# Altium schematic symbol library HARSH_Payload_SchLib.SchLib: 93 symbols (part 2 of 4)
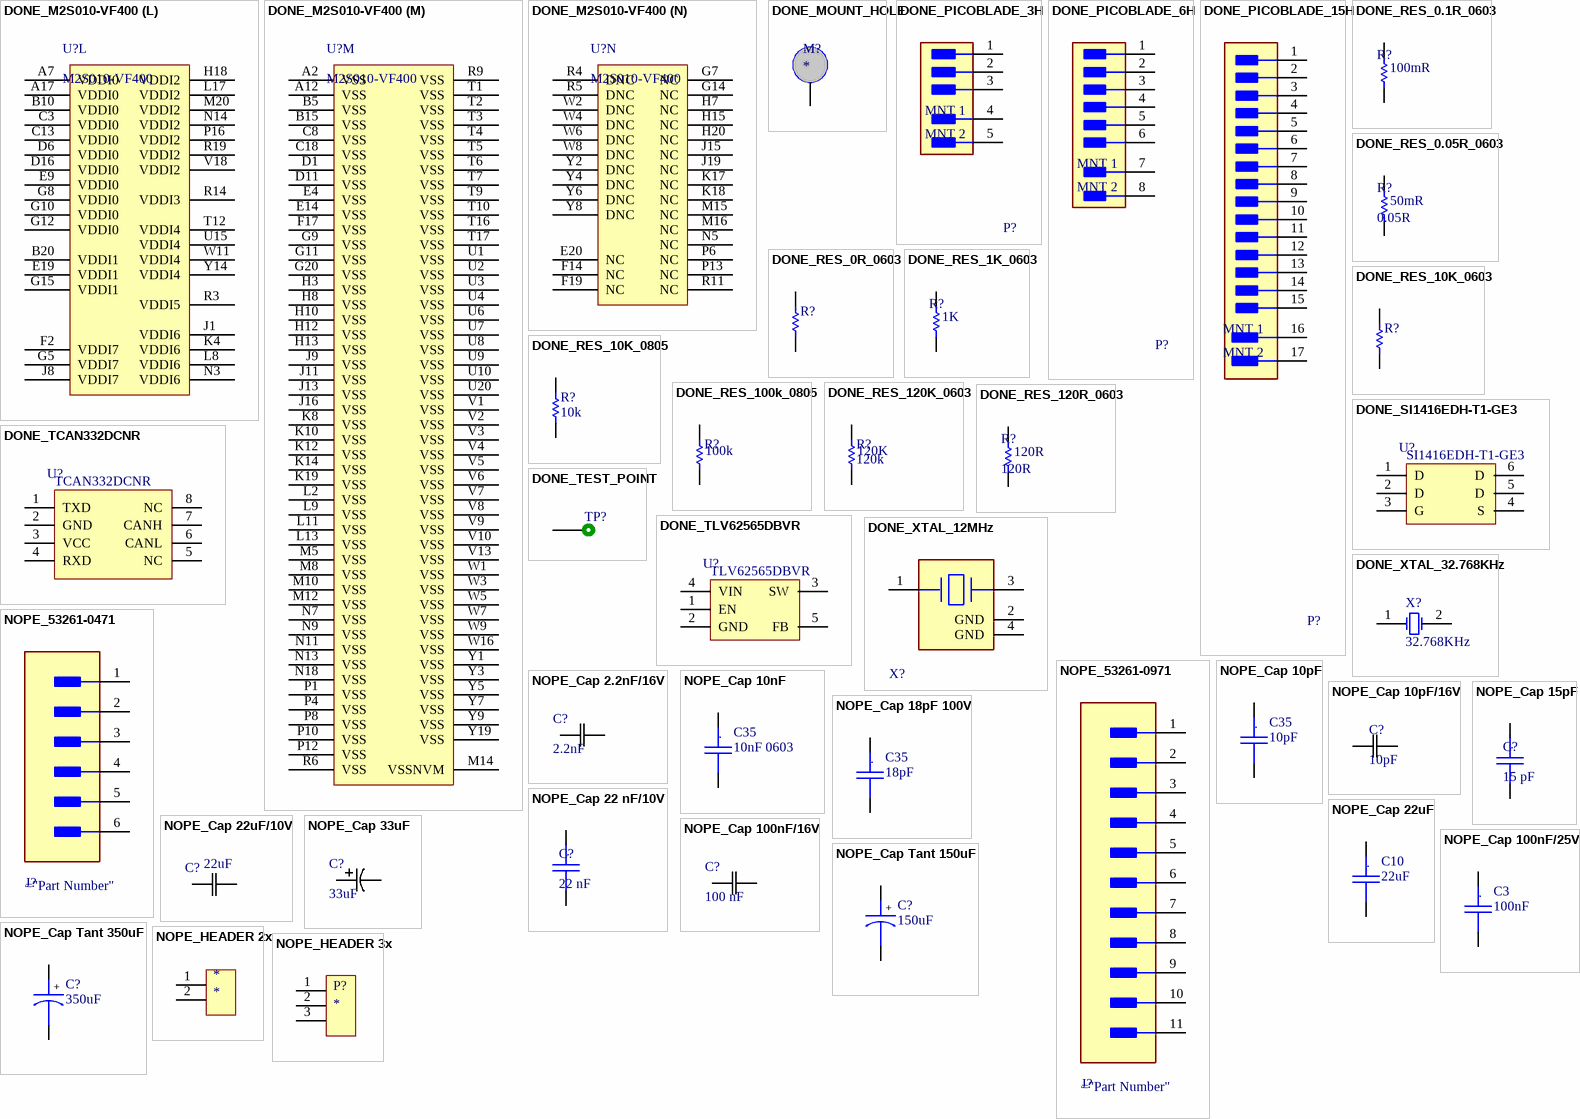
[diagram p4: symbols DONE_M2S010-VF400 to NOPE_HEADER 3x]

## DONE_M2S010-VF400
designator U?, comment M2S010-VF400
SmartFusion2 SoC FPGA, ARM Cortex-M3, 10 K LUTs, 195 User I/O, Design Security, 0 to 85 degC, 400-Ball BGA; Manufacturer: Microsemi; DDR Controllers (Count x Width): 1x18; MSIO (3.3V): 99; PLLs and CCCs: 2; eSRAM (K Bytes) Non SECDED: 80; SERDES Lanes: 4; Total User I/O: 195; eSRAM (K Bytes): 64; uSRAM1K Blocks: 22; Maximum Logic Elements: 12,084; MSIOD (2.5V): 32; eNVM (K Bytes): 256; Total RAM (K bits): 400; LSRAM 18K Blocks: 21; Partnumber: M2S010-VF400; PackageVersion: Rev. 48, 11/2013; ComponentLink1Description: Manufacturer URL; ComponentLink2Description: Datasheet; DatasheetVersion: Rev. 5; ComponentLink3URL: http://www.microsemi.com/document-portal/doc_download/131095-package-mechanical-drawings; ComponentLink1URL: http://www.microsemi.com/; ComponentLink2URL: http://www.microsemi.com/document-portal/doc_download/130717-smartfusion2-datasheet; PackageReference: VF-400; ComponentLink3Description: Package Specification; Math Blocks (18x18): 22; RoHS: FALSE; DDRIO (2.5V): 64; Mounting Technology: Surface Mount; PackageDescription: 400-Ball Very Fine Pitch Ball Grid Array, Body 17 x 17 mm, Pitch 0.8 mm
footprint DONE_MCSM_VF_400 (BGA, 400-Balls, Body 17x17mm, Pitch 0.8mm)
part A pins: A1 DDRIO59PB0/GB0 (io), A3 DDRIO56PB0/MDDR_DQ_ECC1 (io), A4 DDRIO56NB0/MDDR_DQ_ECC0 (io), A5 DDRIO53PB0/MDDR_DQ2 (io), A6 DDRIO53NB0/MDDR_DQ3 (io), A8 DDRIO50PB0/MDDR_DQ5 (io), A9 DDRIO48PB0/MDDR_DQ8 (io), A10 DDRIO48NB0/MDDR_DQ9 (io), A11 DDRIO43PB0/MDDR_DQ14 (io), A13 DDRIO36PB0/MDDR_ADDR1 (io), A14 DDRIO36NB0/MDDR_ADDR2 (io), A15 DDRIO34NB0/MDDR_ADDR6 (io), A16 DDRIO32PB0/MDDR_ADDR8 (io), A18 DDRIO29PB0/MDDR_ADDR14 (io), B1 DDRIO59NB0/GB4 (io), B3 DDRIO58PB0/MDDR_DQS_ECC (io), B4 DDRIO58NB0/MDDR_DQS_ECC_N (io), B6 DDRIO51PB0/MDDR_DM_RDQS0 (io), B7 DDRIO51NB0/MDDR_DQ4 (io), B8 DDRIO50NB0/MDDR_DQ6 (io), B9 DDRIO46NB0/MDDR_DQS1_N (io), B11 DDRIO43NB0/MDDR_DQ15 (io), B12 DDRIO39NB0/MDDR_CLK_N (io), B13 DDRIO39PB0/MDDR_CLK (io), B14 DDRIO34PB0/MDDR_ADDR5 (io), B16 DDRIO33PB0/MDDR_ODT (io), B17 DDRIO32NB0/MDDR_ADDR9 (io), B18 DDRIO29NB0/MDDR_ADDR15 (io), C4 DDRIO60PB0/MDDR_TMATCH_ECC_OUT (io), C5 DDRIO57NB0/MDDR_DM_RDQS_ECC (io), C6 DDRIO52PB0/MDDR_DQS0 (io), C7 DDRIO52NB0/MDDR_DQS0_N (io), C9 DDRIO46PB0/MDDR_DQS1 (io), C10 DDRIO47NB0/MDDR_DQ11 (io), C11 DDRIO41NB0/MDDR_CS_N (io), C12 DDRIO41PB0/MDDR_CKE (io), C14 DDRIO35PB0/MDDR_ADDR3 (io), C15 DDRIO35NB0/MDDR_ADDR4 (io), C16 DDRIO33NB0/MDDR_ADDR7 (io), C17 DDRIO30NB0/MDDR_ADDR13 (io), D3 DDRIO60NB0/CCC_NE1_CLKI3 (io), D4 DDRIO57PB0/MDDR_TMATCH_ECC_IN (io), D5 DDRIO55NB0 (io) "The double data input output (DDRIO) is a multi-standard I/O optimized for LPDDR/DDR2/DDR3 performance. In SmartFusion2 devices there are two DDR subsystems: the fabric DDR and MSS DDR controllers. All DDRIOs can be (See Datasheet)", D7 DDRIO49PB0/MDDR_DQ7 (io), D8 DDRIO49NB0/MDDR_TMATCH_0_OUT (io), D9 DDRIO47PB0/MDDR_DQ10 (io), D10 DDRIO44PB0/MDDR_DQ12 (io), D12 DDRIO42PB0/MDDR_RAS_N (io), D13 DDRIO37PB0/MDDR_BA2 (io), D14 DDRIO37NB0/MDDR_ADDR0 (io), D15 DDRIO31PB0/MDDR_ADDR10 (io), D17 DDRIO30PB0/MDDR_ADDR12 (io), E6 DDRIO55PB0/CCC_NE0_CLKI3 (io), E7 DDRIO54PB0/MDDR_DQ0 (io), E8 DDRIO45PB0/MDDR_TMATCH_0_IN (io), E10 DDRIO44NB0/MDDR_DQ13 (io), E11 DDRIO42NB0/MDDR_WE_N (io), E12 DDRIO40NB0/MDDR_CAS_N (io), E13 DDRIO38PB0/MDDR_BA0 (io), E15 DDRIO31NB0/MDDR_ADDR11 (io), F8 DDRIO54NB0/MDDR_DQ1 (io), F9 DDRIO45NB0/MDDR_DM_RDQS1 (io), F11 DDRIO40PB0/MDDR_RESET_N (io), F13 DDRIO38NB0/MDDR_BA1 (io)
part B pins: A19 MSIO28NB1/I2C_0_SCL/GPIO_31_B/USB_DATA1_C (io), A20 MSIO28PB1/I2C_0_SDA/GPIO_30_B/USB_DATA0_C (io), B19 MSIO27NB1/MMUART_0_CLK/GPIO_29_B/USB_NXT_C (io), C19 MSIO27PB1/MMUART_0_RXD/GPIO_28_B/USB_STP_C (io), C20 MSIO25NB1/MMUART_0_DCD/GPIO_22_B (io), D18 MSI26NB1/MMUART_0_TXD/GPIO_27_B/USB_DIR_C (io), D20 MSIO25PB1/MMUART_0_RI/GPIO_21_B (io), E16 MSIO24NB1/MMUART_0_DSR/GPIO_20_B (io), E17 MSIO24PB1/MMUART_0_CTS/GPIO_19_B/USB_DATA7_C (io), E18 MSIO22PB1/GB6/MMUART_1_CLK/GPIO_25_B/USB_DATA4_C (io), F15 MSIO23PB1/MMUART_0_RTS/GPIO_17_B/USB_DATA5_C (io), F16 MSIO23NB1/MMUART_0_DTR/GPIO_18_B/USB_DATA6_C (io), F18 MSIO22NB1/MMUART_1_RXD/GPIO_26_B/USB_DATA3_C (io), G16 MSIO21NB1/MMUART_1_TXD/GPIO_24_B/USB_DATA2_C (io), G17 MSIO21PB1/GB5/USB_XCLK_C (io)
part C pins: F20 MSIO20NB2/SPI_1_SS3/GPIO_16_A (io), G18 MSIO18NB2/SPI_0_SS2/GPIO_9_A/USB_DATA6_A (io), G19 MSIO20PB2/SPI_1_SS2/GPIO_15_A (io), H16 MSIO19NB2/SPI_1_SS1/GPIO_14_A (io), H17 MSIO19PB2/SPI_0_SS3/GPIO_10_A/USB_DATA7_A (io), H19 MSIO18PB2/SPI_0_SS1/GPIO_8_A/USB_DATA5_A (io), J17 MSIO16PB2/SPI_1_SS4/GPIO_17_A (io), J18 MSIO16NB2/SPI_1_SS5/GPIO_18_A (io), J20 MSIO15NB2/SPI_1_SS0/GPIO_13_A (io), K15 MSIO17NB2/SPI_1_SS7/GPIO_24_A (io), K16 MSIO17PB2/SPI_1_SS6/GPIO_23_A (io), K20 MSIO15PB2/SPI_1_SDO/GPIO_12_A (io), L15 MSIO14PB2/SPI_1_CLK (io), L16 MSIO14NB2/SPI_1_SDI/GPIO_11_A (io), L19 MSIO13NB2/SPI_0_SS0/GPIO_7_A/USB_NXT_A (io), L20 MSIO13PB2/SPI_0_SDO/GPIO_6_A/USB_STP_A (io), M17 MSIO11NB2/CCC_NE0_CLKI2/I2C_1_SCL/GPIO_1_A/USB_DATA4_A (io), M19 MSIO8NB2/CAN_TX_EN_N/GPIO_4_A/USB_DATA2_A (io), N15 MSIO12NB2/SPI_0_SDI/GPIO_5_A/USB_DIR_A (io), N16 MSIO11PB2/CCC_NE0_CLKI1/I2C_1_SDA/GPIO_0_A/USB_DATA3_A (io), N19 MSIO4NB2/USB_DATA3_B (io), N20 MSIO8PB2/CAN_RX/GPIO_3_A/USB_DATA1_A (io), P15 MSIO12PB2/SPI_0_CLK/USB_XCLK_A (io), P18 MSIO6PB2/USB_DATA6_B (io), P19 MSIO6NB2 (io) "MSIOs provide programmable drive strength, weak pull-up, and weak-pulldown.In single ended mode, the I/O pair operates as two separate I/Os named P and N. Some of these pins are also multiplexed with integrated peripherals (See Datasheet)", P20 MSIO4PB2/USB_DATA2_B (io), R15 MSIO7NB2/CAN_TX/GPIO_2_A/USB_DATA0_A (io), R16 MSIO7PB2 (io) "MSIOs provide programmable drive strength, weak pull-up, and weak-pulldown.In single ended mode, the I/O pair operates as two separate I/Os named P and N. Some of these pins are also multiplexed with integrated peripherals (See Datasheet)", R17 MSIO5PB2/USB_DATA4_B (io), R18 MSIO5NB2/USB_DATA5_B (io), R20 MSIO3NB2/USB_DATA1_B (io), T18 MSIO2PB2/USB_STP_B (io), T19 MSIO2NB2/USB_NXT_B (io), T20 MSIO3PB2/USB_DATA0_B (io), U18 MSIO1PB2/USB_XCLK_B (io), U19 MSIO1NB2/USB_DIR_B (io), V19 MSIO0NB2/USB_DATA7_B (io), V20 MSIO0PB2 (io) "MSIOs provide programmable drive strength, weak pull-up, and weak-pulldown.In single ended mode, the I/O pair operates as two separate I/Os named P and N. Some of these pins are also multiplexed with integrated peripherals (See Datasheet)"
part D pins: R12 MSIO114NB4 (io) "MSIOs provide programmable drive strength, weak pull-up, and weak-pulldown.In single ended mode, the I/O pair operates as two separate I/Os named P and N. Some of these pins are also multiplexed with integrated peripherals (See Datasheet)", R13 MSIO114PB4 (io) "MSIOs provide programmable drive strength, weak pull-up, and weak-pulldown.In single ended mode, the I/O pair operates as two separate I/Os named P and N. Some of these pins are also multiplexed with integrated peripherals (See Datasheet)", T13 MSIO113NB4 (io) "MSIOs provide programmable drive strength, weak pull-up, and weak-pulldown.In single ended mode, the I/O pair operates as two separate I/Os named P and N. Some of these pins are also multiplexed with integrated peripherals (See Datasheet)", T14 MSIO116PB4 (io) "MSIOs provide programmable drive strength, weak pull-up, and weak-pulldown.In single ended mode, the I/O pair operates as two separate I/Os named P and N. Some of these pins are also multiplexed with integrated peripherals (See Datasheet)", T15 MSIO116NB4 (io) "MSIOs provide programmable drive strength, weak pull-up, and weak-pulldown.In single ended mode, the I/O pair operates as two separate I/Os named P and N. Some of these pins are also multiplexed with integrated peripherals (See Datasheet)", U11 MSIO104NB4/GB7 (io), U12 MSIO110NB4 (io) "MSIOs provide programmable drive strength, weak pull-up, and weak-pulldown.In single ended mode, the I/O pair operates as two separate I/Os named P and N. Some of these pins are also multiplexed with integrated peripherals (See Datasheet)", U13 MSIO113PB4 (io) "MSIOs provide programmable drive strength, weak pull-up, and weak-pulldown.In single ended mode, the I/O pair operates as two separate I/Os named P and N. Some of these pins are also multiplexed with integrated peripherals (See Datasheet)", U14 MSIO115NB4 (io) "MSIOs provide programmable drive strength, weak pull-up, and weak-pulldown.In single ended mode, the I/O pair operates as two separate I/Os named P and N. Some of these pins are also multiplexed with integrated peripherals (See Datasheet)", V11 MSIO104PB4/GB3 (io), V12 MSIO110PB4 (io) "MSIOs provide programmable drive strength, weak pull-up, and weak-pulldown.In single ended mode, the I/O pair operates as two separate I/Os named P and N. Some of these pins are also multiplexed with integrated peripherals (See Datasheet)", V14 MSIO115PB4 (io) "MSIOs provide programmable drive strength, weak pull-up, and weak-pulldown.In single ended mode, the I/O pair operates as two separate I/Os named P and N. Some of these pins are also multiplexed with integrated peripherals (See Datasheet)", V15 MSIO118NB4 (io) "MSIOs provide programmable drive strength, weak pull-up, and weak-pulldown.In single ended mode, the I/O pair operates as two separate I/Os named P and N. Some of these pins are also multiplexed with integrated peripherals (See Datasheet)", W10 MSIO102NB4/CCC_NE1_CLKI0 (io), W12 MSIO103NB4/PROBE_B (io), W13 MSIO112PB4 (io) "MSIOs provide programmable drive strength, weak pull-up, and weak-pulldown.In single ended mode, the I/O pair operates as two separate I/Os named P and N. Some of these pins are also multiplexed with integrated peripherals (See Datasheet)", W14 MSIO112NB4 (io) "MSIOs provide programmable drive strength, weak pull-up, and weak-pulldown.In single ended mode, the I/O pair operates as two separate I/Os named P and N. Some of these pins are also multiplexed with integrated peripherals (See Datasheet)", W15 MSIO118PB4 (io) "MSIOs provide programmable drive strength, weak pull-up, and weak-pulldown.In single ended mode, the I/O pair operates as two separate I/Os named P and N. Some of these pins are also multiplexed with integrated peripherals (See Datasheet)", Y10 MSIO102PB4 (io) "MSIOs provide programmable drive strength, weak pull-up, and weak-pulldown.In single ended mode, the I/O pair operates as two separate I/Os named P and N. Some of these pins are also multiplexed with integrated peripherals (See Datasheet)", Y11 MSIO103PB4/PROBE_A (io), Y12 MSIO105PB4/CCC_NE0_CLKI0 (io), Y13 MSIO105NB4 (io) "MSIOs provide programmable drive strength, weak pull-up, and weak-pulldown.In single ended mode, the I/O pair operates as two separate I/Os named P and N. Some of these pins are also multiplexed with integrated peripherals (See Datasheet)", Y15 MSIO117PB4 (io) "MSIOs provide programmable drive strength, weak pull-up, and weak-pulldown.In single ended mode, the I/O pair operates as two separate I/Os named P and N. Some of these pins are also multiplexed with integrated peripherals (See Datasheet)", Y16 MSIO117NB4 (io) "MSIOs provide programmable drive strength, weak pull-up, and weak-pulldown.In single ended mode, the I/O pair operates as two separate I/Os named P and N. Some of these pins are also multiplexed with integrated peripherals (See Datasheet)"
part E pins: P2 MSIOD101PB5 (io) "MSIOD is very similar to MSIO, but drops 3.3 V and hot-plug support and adds pre-emphasis, in order to achieve higher speeds. MSIODs provide programmable drive strength, weak pull-up, and weak pull-down. MSIOD I/O cells (See Datasheet)", P3 MSIOD101NB5 (io) "MSIOD is very similar to MSIO, but drops 3.3 V and hot-plug support and adds pre-emphasis, in order to achieve higher speeds. MSIODs provide programmable drive strength, weak pull-up, and weak pull-down. MSIOD I/O cells (See Datasheet)", R1 MSIOD100PB5 (io) "MSIOD is very similar to MSIO, but drops 3.3 V and hot-plug support and adds pre-emphasis, in order to achieve higher speeds. MSIODs provide programmable drive strength, weak pull-up, and weak pull-down. MSIOD I/O cells (See Datasheet)", R2 MSIOD100NB5 (io) "MSIOD is very similar to MSIO, but drops 3.3 V and hot-plug support and adds pre-emphasis, in order to achieve higher speeds. MSIODs provide programmable drive strength, weak pull-up, and weak pull-down. MSIOD I/O cells (See Datasheet)"
part F pins: H1 MSIOD82PB6 (io) "MSIOD is very similar to MSIO, but drops 3.3 V and hot-plug support and adds pre-emphasis, in order to achieve higher speeds. MSIODs provide programmable drive strength, weak pull-up, and weak pull-down. MSIOD I/O cells (See Datasheet)", H2 MSIOD82NB6 (io) "MSIOD is very similar to MSIO, but drops 3.3 V and hot-plug support and adds pre-emphasis, in order to achieve higher speeds. MSIODs provide programmable drive strength, weak pull-up, and weak pull-down. MSIOD I/O cells (See Datasheet)", J2 MSIOD84PB6/CCC_NE1_CLKI2 (io), J3 MSIOD84NB6 (io) "MSIOD is very similar to MSIO, but drops 3.3 V and hot-plug support and adds pre-emphasis, in order to achieve higher speeds. MSIODs provide programmable drive strength, weak pull-up, and weak pull-down. MSIOD I/O cells (See Datasheet)", J4 MSIOD83PB6 (io) "MSIOD is very similar to MSIO, but drops 3.3 V and hot-plug support and adds pre-emphasis, in order to achieve higher speeds. MSIODs provide programmable drive strength, weak pull-up, and weak pull-down. MSIOD I/O cells (See Datasheet)", J5 MSIOD83NB6 (io) "MSIOD is very similar to MSIO, but drops 3.3 V and hot-plug support and adds pre-emphasis, in order to achieve higher speeds. MSIODs provide programmable drive strength, weak pull-up, and weak pull-down. MSIOD I/O cells (See Datasheet)", J6 MSIOD85NB6 (io) "MSIOD is very similar to MSIO, but drops 3.3 V and hot-plug support and adds pre-emphasis, in order to achieve higher speeds. MSIODs provide programmable drive strength, weak pull-up, and weak pull-down. MSIOD I/O cells (See Datasheet)", K1 MSIOD93NB6 (io) "MSIOD is very similar to MSIO, but drops 3.3 V and hot-plug support and adds pre-emphasis, in order to achieve higher speeds. MSIODs provide programmable drive strength, weak pull-up, and weak pull-down. MSIOD I/O cells (See Datasheet)", K2 MSIOD87PB6 (io) "MSIOD is very similar to MSIO, but drops 3.3 V and hot-plug support and adds pre-emphasis, in order to achieve higher speeds. MSIODs provide programmable drive strength, weak pull-up, and weak pull-down. MSIOD I/O cells (See Datasheet)", K3 MSIOD87NB6 (io) "MSIOD is very similar to MSIO, but drops 3.3 V and hot-plug support and adds pre-emphasis, in order to achieve higher speeds. MSIODs provide programmable drive strength, weak pull-up, and weak pull-down. MSIOD I/O cells (See Datasheet)", K5 MSIOD86PB6 (io) "MSIOD is very similar to MSIO, but drops 3.3 V and hot-plug support and adds pre-emphasis, in order to achieve higher speeds. MSIODs provide programmable drive strength, weak pull-up, and weak pull-down. MSIOD I/O cells (See Datasheet)", K6 MSIOD86NB6 (io) "MSIOD is very similar to MSIO, but drops 3.3 V and hot-plug support and adds pre-emphasis, in order to achieve higher speeds. MSIODs provide programmable drive strength, weak pull-up, and weak pull-down. MSIOD I/O cells (See Datasheet)", K7 MSIOD85PB6/CCC_NE1_CLKI1 (io), L1 MSIOD93PB6 (io) "MSIOD is very similar to MSIO, but drops 3.3 V and hot-plug support and adds pre-emphasis, in order to achieve higher speeds. MSIODs provide programmable drive strength, weak pull-up, and weak pull-down. MSIOD I/O cells (See Datasheet)", L3 MSIOD95NB6 (io) "MSIOD is very similar to MSIO, but drops 3.3 V and hot-plug support and adds pre-emphasis, in order to achieve higher speeds. MSIODs provide programmable drive strength, weak pull-up, and weak pull-down. MSIOD I/O cells (See Datasheet)", L4 MSIOD90PB6 (io) "MSIOD is very similar to MSIO, but drops 3.3 V and hot-plug support and adds pre-emphasis, in order to achieve higher speeds. MSIODs provide programmable drive strength, weak pull-up, and weak pull-down. MSIOD I/O cells (See Datasheet)", L5 MSIOD90NB6 (io) "MSIOD is very similar to MSIO, but drops 3.3 V and hot-plug support and adds pre-emphasis, in order to achieve higher speeds. MSIODs provide programmable drive strength, weak pull-up, and weak pull-down. MSIOD I/O cells (See Datasheet)", L6 MSIOD89PB6 (io) "MSIOD is very similar to MSIO, but drops 3.3 V and hot-plug support and adds pre-emphasis, in order to achieve higher speeds. MSIODs provide programmable drive strength, weak pull-up, and weak pull-down. MSIOD I/O cells (See Datasheet)", L7 MSIOD89NB6 (io) "MSIOD is very similar to MSIO, but drops 3.3 V and hot-plug support and adds pre-emphasis, in order to achieve higher speeds. MSIODs provide programmable drive strength, weak pull-up, and weak pull-down. MSIOD I/O cells (See Datasheet)", M1 MSIOD97PB6 (io) "MSIOD is very similar to MSIO, but drops 3.3 V and hot-plug support and adds pre-emphasis, in order to achieve higher speeds. MSIODs provide programmable drive strength, weak pull-up, and weak pull-down. MSIOD I/O cells (See Datasheet)", M2 MSIOD97NB6 (io) "MSIOD is very similar to MSIO, but drops 3.3 V and hot-plug support and adds pre-emphasis, in order to achieve higher speeds. MSIODs provide programmable drive strength, weak pull-up, and weak pull-down. MSIOD I/O cells (See Datasheet)", M3 MSIOD95PB6 (io) "MSIOD is very similar to MSIO, but drops 3.3 V and hot-plug support and adds pre-emphasis, in order to achieve higher speeds. MSIODs provide programmable drive strength, weak pull-up, and weak pull-down. MSIOD I/O cells (See Datasheet)", M4 MSIOD98NB6 (io) "MSIOD is very similar to MSIO, but drops 3.3 V and hot-plug support and adds pre-emphasis, in order to achieve higher speeds. MSIODs provide programmable drive strength, weak pull-up, and weak pull-down. MSIOD I/O cells (See Datasheet)", M6 MSIOD94NB6 (io) "MSIOD is very similar to MSIO, but drops 3.3 V and hot-plug support and adds pre-emphasis, in order to achieve higher speeds. MSIODs provide programmable drive strength, weak pull-up, and weak pull-down. MSIOD I/O cells (See Datasheet)", M7 MSIOD94PB6 (io) "MSIOD is very similar to MSIO, but drops 3.3 V and hot-plug support and adds pre-emphasis, in order to achieve higher speeds. MSIODs provide programmable drive strength, weak pull-up, and weak pull-down. MSIOD I/O cells (See Datasheet)", N1 MSIOD99PB6 (io) "MSIOD is very similar to MSIO, but drops 3.3 V and hot-plug support and adds pre-emphasis, in order to achieve higher speeds. MSIODs provide programmable drive strength, weak pull-up, and weak pull-down. MSIOD I/O cells (See Datasheet)", N2 MSIOD99NB6 (io) "MSIOD is very similar to MSIO, but drops 3.3 V and hot-plug support and adds pre-emphasis, in order to achieve higher speeds. MSIODs provide programmable drive strength, weak pull-up, and weak pull-down. MSIOD I/O cells (See Datasheet)", N4 MSIOD98PB6 (io) "MSIOD is very similar to MSIO, but drops 3.3 V and hot-plug support and adds pre-emphasis, in order to achieve higher speeds. MSIODs provide programmable drive strength, weak pull-up, and weak pull-down. MSIOD I/O cells (See Datasheet)"
part G pins: C1 MSIO64PB7 (io) "MSIOs provide programmable drive strength, weak pull-up, and weak-pulldown.In single ended mode, the I/O pair operates as two separate I/Os named P and N. Some of these pins are also multiplexed with integrated peripherals (See Datasheet)", C2 MSIO64NB7 (io) "MSIOs provide programmable drive strength, weak pull-up, and weak-pulldown.In single ended mode, the I/O pair operates as two separate I/Os named P and N. Some of these pins are also multiplexed with integrated peripherals (See Datasheet)", D2 MSIO68PB7 (io) "MSIOs provide programmable drive strength, weak pull-up, and weak-pulldown.In single ended mode, the I/O pair operates as two separate I/Os named P and N. Some of these pins are also multiplexed with integrated peripherals (See Datasheet)", E1 MSIO70PB7 (io) "MSIOs provide programmable drive strength, weak pull-up, and weak-pulldown.In single ended mode, the I/O pair operates as two separate I/Os named P and N. Some of these pins are also multiplexed with integrated peripherals (See Datasheet)", E2 MSIO70NB7 (io) "MSIOs provide programmable drive strength, weak pull-up, and weak-pulldown.In single ended mode, the I/O pair operates as two separate I/Os named P and N. Some of these pins are also multiplexed with integrated peripherals (See Datasheet)", E3 MSIO68NB7 (io) "MSIOs provide programmable drive strength, weak pull-up, and weak-pulldown.In single ended mode, the I/O pair operates as two separate I/Os named P and N. Some of these pins are also multiplexed with integrated peripherals (See Datasheet)", E5 MSIO67NB7 (io) "MSIOs provide programmable drive strength, weak pull-up, and weak-pulldown.In single ended mode, the I/O pair operates as two separate I/Os named P and N. Some of these pins are also multiplexed with integrated peripherals (See Datasheet)", F1 MSIO79NB7 (io) "MSIOs provide programmable drive strength, weak pull-up, and weak-pulldown.In single ended mode, the I/O pair operates as two separate I/Os named P and N. Some of these pins are also multiplexed with integrated peripherals (See Datasheet)", F3 MSIO71PB7 (io) "MSIOs provide programmable drive strength, weak pull-up, and weak-pulldown.In single ended mode, the I/O pair operates as two separate I/Os named P and N. Some of these pins are also multiplexed with integrated peripherals (See Datasheet)", F4 MSIO71NB7 (io) "MSIOs provide programmable drive strength, weak pull-up, and weak-pulldown.In single ended mode, the I/O pair operates as two separate I/Os named P and N. Some of these pins are also multiplexed with integrated peripherals (See Datasheet)", F5 MSIO75NB7 (io) "MSIOs provide programmable drive strength, weak pull-up, and weak-pulldown.In single ended mode, the I/O pair operates as two separate I/Os named P and N. Some of these pins are also multiplexed with integrated peripherals (See Datasheet)", F6 MSIO67PB7 (io) "MSIOs provide programmable drive strength, weak pull-up, and weak-pulldown.In single ended mode, the I/O pair operates as two separate I/Os named P and N. Some of these pins are also multiplexed with integrated peripherals (See Datasheet)", F7 MSIO74NB7 (io) "MSIOs provide programmable drive strength, weak pull-up, and weak-pulldown.In single ended mode, the I/O pair operates as two separate I/Os named P and N. Some of these pins are also multiplexed with integrated peripherals (See Datasheet)", G1 MSIO79PB7/GB1 (io), G2 MSIO78PB7/GB2 (io), G3 MSIO78NB7 (io) "MSIOs provide programmable drive strength, weak pull-up, and weak-pulldown.In single ended mode, the I/O pair operates as two separate I/Os named P and N. Some of these pins are also multiplexed with integrated peripherals (See Datasheet)", G4 MSIO75PB7 (io) "MSIOs provide programmable drive strength, weak pull-up, and weak-pulldown.In single ended mode, the I/O pair operates as two separate I/Os named P and N. Some of these pins are also multiplexed with integrated peripherals (See Datasheet)", G6 MSIO74PB7 (io) "MSIOs provide programmable drive strength, weak pull-up, and weak-pulldown.In single ended mode, the I/O pair operates as two separate I/Os named P and N. Some of these pins are also multiplexed with integrated peripherals (See Datasheet)", H4 MSIO80NB7 (io) "MSIOs provide programmable drive strength, weak pull-up, and weak-pulldown.In single ended mode, the I/O pair operates as two separate I/Os named P and N. Some of these pins are also multiplexed with integrated peripherals (See Datasheet)", H5 MSIO80PB7 (io) "MSIOs provide programmable drive strength, weak pull-up, and weak-pulldown.In single ended mode, the I/O pair operates as two separate I/Os named P and N. Some of these pins are also multiplexed with integrated peripherals (See Datasheet)", H6 MSIO81NB7 (io) "MSIOs provide programmable drive strength, weak pull-up, and weak-pulldown.In single ended mode, the I/O pair operates as two separate I/Os named P and N. Some of these pins are also multiplexed with integrated peripherals (See Datasheet)", J7 MSIO81PB7 (io) "MSIOs provide programmable drive strength, weak pull-up, and weak-pulldown.In single ended mode, the I/O pair operates as two separate I/Os named P and N. Some of these pins are also multiplexed with integrated peripherals (See Datasheet)"
part H pins: U16 JTAGSEL (in) "JTAG controller selection. If JTAGSEL is pulled High, an external TAP controller connects to the JTAG interface-system controller TAP. If JTAGSEL is pulled Low, an external TAP controller connects to either the Cortex-M3 (See Datasheet)", V16 JTAG_TDI/M3_TDI (in), V17 JTAG_TMS/M3_TMS/M3_SWDIO (io), W19 JTAG_TCK/M3_TCK (in), W20 JTAG_TRSTB/M3_TRSTB (in), Y20 JTAG_TDO/M3_TDO/M3_SWO (out)
part I pins: B2 MDDR_IMP_CALIB_ECC, D19 FLASH_GOLDEN_N (in) "If pulled Low, this indicates that the device is to be re-programmed from an image in the external SPI flash attached to the SPI interface. If pulled High, the SPI is put into slave mode. Add an external pull-up resistor (See Datasheet)", L18 SC_SPI_SDI (in) "SPI data input", M18 SC_SPI_CLK (io) "SPI clock", N17 SC_SPI_SDO (out) "SPI data output", P17 SC_SPI_SS (in) "SPI slave select", U17 DEVRST_N (in) "Device reset; asserted Low and powered by VPP. It is a Schmitt trigger input. In unused condition, pull up to VPP through 10 KOhm resistor.", W17 XTLOSC_AUX_XTAL "Input clock from the auxiliary crystal oscillator.", W18 XTLOSC_MAIN_EXTAL "Crystal connection or external RC network.", Y17 XTLOSC_AUX_EXTAL "Crystal connection or external RC network.", Y18 XTLOSC_MAIN_XTAL "Input clock from the main crystal oscillator."
part J pins: G13 CCC_NE0_NE1_MSS_MDDR_PLL_VSSA (power), H14 CCC_NE0_NE1_MSS_MDDR_PLL_VDDA (power)
part K pins: F10 VREF0 (power) "Reference voltage for MDDR signals which are located in bank 0. When unused, VREF0 can be DNC or grounded (VSS).", F12 VREF0 (power) "Reference voltage for MDDR signals which are located in bank 0. When unused, VREF0 can be DNC or grounded (VSS).", H9 VDD (power) "DC core supply voltage. Must always power this pin.", H11 VDD (power) "DC core supply voltage. Must always power this pin.", J10 VDD (power) "DC core supply voltage. Must always power this pin.", J12 VDD (power) "DC core supply voltage. Must always power this pin.", J14 VPP (power) "Power supply for charge pumps (for normal operation and programming). Must always power this pin.", K9 VDD (power) "DC core supply voltage. Must always power this pin.", K11 VDD (power) "DC core supply voltage. Must always power this pin.", K13 VDD (power) "DC core supply voltage. Must always power this pin.", L10 VDD (power) "DC core supply voltage. Must always power this pin.", L12 VDD (power) "DC core supply voltage. Must always power this pin.", L14 VPPNVM (power) "Analog sense circuit supply of embedded nonvolatile memory (eNVM). Must be shorted to VPP.", M9 VDD (power) "DC core supply voltage. Must always power this pin.", M11 VDD (power) "DC core supply voltage. Must always power this pin.", M13 VDD (power) "DC core supply voltage. Must always power this pin.", N6 VDD (power) "DC core supply voltage. Must always power this pin.", N8 VDD (power) "DC core supply voltage. Must always power this pin.", N10 VDD (power) "DC core supply voltage. Must always power this pin.", N12 VDD (power) "DC core supply voltage. Must always power this pin.", P5 VPP (power) "Power supply for charge pumps (for normal operation and programming). Must always power this pin.", P7 VDD (power) "DC core supply voltage. Must always power this pin.", P9 VDD (power) "DC core supply voltage. Must always power this pin.", P11 VDD (power) "DC core supply voltage. Must always power this pin.", P14 VPP (power) "Power supply for charge pumps (for normal operation and programming). Must always power this pin.", R7 VDD (power) "DC core supply voltage. Must always power this pin.", R8 VDD (power) "DC core supply voltage. Must always power this pin.", R10 VDD (power) "DC core supply voltage. Must always power this pin.", T8 VDD (power) "DC core supply voltage. Must always power this pin.", T11 VPP (power) "Power supply for charge pumps (for normal operation and programming). Must always power this pin.", U5 VDD (power) "DC core supply voltage. Must always power this pin."
part L pins: A7 VDDI0 (power) "VDDI port 0, bank 0 power", A17 VDDI0 (power) "VDDI port 0, bank 0 power", B10 VDDI0 (power) "VDDI port 0, bank 0 power", B20 VDDI1 (power) "VDDI port 1, bank 1 power", C3 VDDI0 (power) "VDDI port 0, bank 0 power", C13 VDDI0 (power) "VDDI port 0, bank 0 power", D6 VDDI0 (power) "VDDI port 0, bank 0 power", D16 VDDI0 (power) "VDDI port 0, bank 0 power", E9 VDDI0 (power) "VDDI port 0, bank 0 power", E19 VDDI1 (power) "VDDI port 1, bank 1 power", F2 VDDI7 (power) "VDDI port 7, bank 7 power", G5 VDDI7 (power) "VDDI port 7, bank 7 power", G8 VDDI0 (power) "VDDI port 0, bank 0 power", G10 VDDI0 (power) "VDDI port 0, bank 0 power", G12 VDDI0 (power) "VDDI port 0, bank 0 power", G15 VDDI1 (power) "VDDI port 1, bank 1 power", H18 VDDI2 (power) "VDDI port 2, bank 2 power", J1 VDDI6 (power) "VDDI port 6, bank 6 power", J8 VDDI7 (power) "VDDI port 7, bank 7 power", K4 VDDI6 (power) "VDDI port 6, bank 6 power", L8 VDDI6 (power) "VDDI port 6, bank 6 power", L17 VDDI2 (power) "VDDI port 2, bank 2 power", M20 VDDI2 (power) "VDDI port 2, bank 2 power", N3 VDDI6 (power) "VDDI port 6, bank 6 power", N14 VDDI2 (power) "VDDI port 2, bank 2 power", P16 VDDI2 (power) "VDDI port 2, bank 2 power", R3 VDDI5 (power) "VDDI port 5, bank 5 power", R14 VDDI3 (power) "VDDI port 3, bank 3 power", R19 VDDI2 (power) "VDDI port 2, bank 2 power", T12 VDDI4 (power) "VDDI port 4, bank 4 power", U15 VDDI4 (power) "VDDI port 4, bank 4 power", V18 VDDI2 (power) "VDDI port 2, bank 2 power", W11 VDDI4 (power) "VDDI port 4, bank 4 power", Y14 VDDI4 (power) "VDDI port 4, bank 4 power"
part M pins: A2 VSS (power) "Ground pad for core and I/Os. Must always connect to ground.", A12 VSS (power) "Ground pad for core and I/Os. Must always connect to ground.", B5 VSS (power) "Ground pad for core and I/Os. Must always connect to ground.", B15 VSS (power) "Ground pad for core and I/Os. Must always connect to ground.", C8 VSS (power) "Ground pad for core and I/Os. Must always connect to ground.", C18 VSS (power) "Ground pad for core and I/Os. Must always connect to ground.", D1 VSS (power) "Ground pad for core and I/Os. Must always connect to ground.", D11 VSS (power) "Ground pad for core and I/Os. Must always connect to ground.", E4 VSS (power) "Ground pad for core and I/Os. Must always connect to ground.", E14 VSS (power) "Ground pad for core and I/Os. Must always connect to ground.", F17 VSS (power) "Ground pad for core and I/Os. Must always connect to ground.", G9 VSS (power) "Ground pad for core and I/Os. Must always connect to ground.", G11 VSS (power) "Ground pad for core and I/Os. Must always connect to ground.", G20 VSS (power) "Ground pad for core and I/Os. Must always connect to ground.", H3 VSS (power) "Ground pad for core and I/Os. Must always connect to ground.", H8 VSS (power) "Ground pad for core and I/Os. Must always connect to ground.", H10 VSS (power) "Ground pad for core and I/Os. Must always connect to ground.", H12 VSS (power) "Ground pad for core and I/Os. Must always connect to ground.", H13 VSS (power) "Ground pad for core and I/Os. Must always connect to ground.", J9 VSS (power) "Ground pad for core and I/Os. Must always connect to ground.", J11 VSS (power) "Ground pad for core and I/Os. Must always connect to ground.", J13 VSS (power) "Ground pad for core and I/Os. Must always connect to ground.", J16 VSS (power) "Ground pad for core and I/Os. Must always connect to ground.", K8 VSS (power) "Ground pad for core and I/Os. Must always connect to ground.", K10 VSS (power) "Ground pad for core and I/Os. Must always connect to ground.", K12 VSS (power) "Ground pad for core and I/Os. Must always connect to ground.", K14 VSS (power) "Ground pad for core and I/Os. Must always connect to ground.", K19 VSS (power) "Ground pad for core and I/Os. Must always connect to ground.", L2 VSS (power) "Ground pad for core and I/Os. Must always connect to ground.", L9 VSS (power) "Ground pad for core and I/Os. Must always connect to ground.", L11 VSS (power) "Ground pad for core and I/Os. Must always connect to ground.", L13 VSS (power) "Ground pad for core and I/Os. Must always connect to ground.", M5 VSS (power) "Ground pad for core and I/Os. Must always connect to ground.", M8 VSS (power) "Ground pad for core and I/Os. Must always connect to ground.", M10 VSS (power) "Ground pad for core and I/Os. Must always connect to ground.", M12 VSS (power) "Ground pad for core and I/Os. Must always connect to ground.", M14 VSSNVM (power) "Analog sense circuit ground of eNVM. Must always connect to ground.", N7 VSS (power) "Ground pad for core and I/Os. Must always connect to ground.", N9 VSS (power) "Ground pad for core and I/Os. Must always connect to ground.", N11 VSS (power) "Ground pad for core and I/Os. Must always connect to ground.", N13 VSS (power) "Ground pad for core and I/Os. Must always connect to ground.", N18 VSS (power) "Ground pad for core and I/Os. Must always connect to ground.", P1 VSS (power) "Ground pad for core and I/Os. Must always connect to ground.", P4 VSS (power) "Ground pad for core and I/Os. Must always connect to ground.", P8 VSS (power) "Ground pad for core and I/Os. Must always connect to ground.", P10 VSS (power) "Ground pad for core and I/Os. Must always connect to ground.", P12 VSS (power) "Ground pad for core and I/Os. Must always connect to ground.", R6 VSS (power) "Ground pad for core and I/Os. Must always connect to ground.", R9 VSS (power) "Ground pad for core and I/Os. Must always connect to ground.", T1 VSS (power) "Ground pad for core and I/Os. Must always connect to ground.", T2 VSS (power) "Ground pad for core and I/Os. Must always connect to ground.", T3 VSS (power) "Ground pad for core and I/Os. Must always connect to ground.", T4 VSS (power) "Ground pad for core and I/Os. Must always connect to ground.", T5 VSS (power) "Ground pad for core and I/Os. Must always connect to ground.", T6 VSS (power) "Ground pad for core and I/Os. Must always connect to ground.", T7 VSS (power) "Ground pad for core and I/Os. Must always connect to ground.", T9 VSS (power) "Ground pad for core and I/Os. Must always connect to ground.", T10 VSS (power) "Ground pad for core and I/Os. Must always connect to ground.", T16 VSS (power) "Ground pad for core and I/Os. Must always connect to ground.", T17 VSS (power) "Ground pad for core and I/Os. Must always connect to ground.", U1 VSS (power) "Ground pad for core and I/Os. Must always connect to ground.", U2 VSS (power) "Ground pad for core and I/Os. Must always connect to ground.", U3 VSS (power) "Ground pad for core and I/Os. Must always connect to ground.", U4 VSS (power) "Ground pad for core and I/Os. Must always connect to ground.", U6 VSS (power) "Ground pad for core and I/Os. Must always connect to ground.", U7 VSS (power) "Ground pad for core and I/Os. Must always connect to ground.", U8 VSS (power) "Ground pad for core and I/Os. Must always connect to ground.", U9 VSS (power) "Ground pad for core and I/Os. Must always connect to ground.", U10 VSS (power) "Ground pad for core and I/Os. Must always connect to ground.", U20 VSS (power) "Ground pad for core and I/Os. Must always connect to ground.", V1 VSS (power) "Ground pad for core and I/Os. Must always connect to ground.", V2 VSS (power) "Ground pad for core and I/Os. Must always connect to ground.", V3 VSS (power) "Ground pad for core and I/Os. Must always connect to ground.", V4 VSS (power) "Ground pad for core and I/Os. Must always connect to ground.", V5 VSS (power) "Ground pad for core and I/Os. Must always connect to ground.", V6 VSS (power) "Ground pad for core and I/Os. Must always connect to ground.", V7 VSS (power) "Ground pad for core and I/Os. Must always connect to ground.", V8 VSS (power) "Ground pad for core and I/Os. Must always connect to ground.", V9 VSS (power) "Ground pad for core and I/Os. Must always connect to ground.", V10 VSS (power) "Ground pad for core and I/Os. Must always connect to ground.", V13 VSS (power) "Ground pad for core and I/Os. Must always connect to ground.", W1 VSS (power) "Ground pad for core and I/Os. Must always connect to ground.", W3 VSS (power) "Ground pad for core and I/Os. Must always connect to ground.", W5 VSS (power) "Ground pad for core and I/Os. Must always connect to ground.", W7 VSS (power) "Ground pad for core and I/Os. Must always connect to ground.", W9 VSS (power) "Ground pad for core and I/Os. Must always connect to ground.", W16 VSS (power) "Ground pad for core and I/Os. Must always connect to ground.", Y1 VSS (power) "Ground pad for core and I/Os. Must always connect to ground.", Y3 VSS (power) "Ground pad for core and I/Os. Must always connect to ground.", Y5 VSS (power) "Ground pad for core and I/Os. Must always connect to ground.", Y7 VSS (power) "Ground pad for core and I/Os. Must always connect to ground.", Y9 VSS (power) "Ground pad for core and I/Os. Must always connect to ground.", Y19 VSS (power) "Ground pad for core and I/Os. Must always connect to ground."
part N pins: E20 NC "No connect. This pin is not connected to circuitry within the device. This pin can be driven to any voltage or can be left floating with no effect on the operation of the device.", F14 NC "No connect. This pin is not connected to circuitry within the device. This pin can be driven to any voltage or can be left floating with no effect on the operation of the device.", F19 NC "No connect. This pin is not connected to circuitry within the device. This pin can be driven to any voltage or can be left floating with no effect on the operation of the device.", G7 NC "No connect. This pin is not connected to circuitry within the device. This pin can be driven to any voltage or can be left floating with no effect on the operation of the device.", G14 NC "No connect. This pin is not connected to circuitry within the device. This pin can be driven to any voltage or can be left floating with no effect on the operation of the device.", H7 NC "No connect. This pin is not connected to circuitry within the device. This pin can be driven to any voltage or can be left floating with no effect on the operation of the device.", H15 NC "No connect. This pin is not connected to circuitry within the device. This pin can be driven to any voltage or can be left floating with no effect on the operation of the device.", H20 NC "No connect. This pin is not connected to circuitry within the device. This pin can be driven to any voltage or can be left floating with no effect on the operation of the device.", J15 NC "No connect. This pin is not connected to circuitry within the device. This pin can be driven to any voltage or can be left floating with no effect on the operation of the device.", J19 NC "No connect. This pin is not connected to circuitry within the device. This pin can be driven to any voltage or can be left floating with no effect on the operation of the device.", K17 NC "No connect. This pin is not connected to circuitry within the device. This pin can be driven to any voltage or can be left floating with no effect on the operation of the device.", K18 NC "No connect. This pin is not connected to circuitry within the device. This pin can be driven to any voltage or can be left floating with no effect on the operation of the device.", M15 NC "No connect. This pin is not connected to circuitry within the device. This pin can be driven to any voltage or can be left floating with no effect on the operation of the device.", M16 NC "No connect. This pin is not connected to circuitry within the device. This pin can be driven to any voltage or can be left floating with no effect on the operation of the device.", N5 NC "No connect. This pin is not connected to circuitry within the device. This pin can be driven to any voltage or can be left floating with no effect on the operation of the device.", P6 NC "No connect. This pin is not connected to circuitry within the device. This pin can be driven to any voltage or can be left floating with no effect on the operation of the device.", P13 NC "No connect. This pin is not connected to circuitry within the device. This pin can be driven to any voltage or can be left floating with no effect on the operation of the device.", R4 DNC "Do not connect. This pin should not be connected to any signals on the PCB; leave this pin unconnected.", R5 DNC "Do not connect. This pin should not be connected to any signals on the PCB; leave this pin unconnected.", R11 NC "No connect. This pin is not connected to circuitry within the device. This pin can be driven to any voltage or can be left floating with no effect on the operation of the device.", W2 DNC "Do not connect. This pin should not be connected to any signals on the PCB; leave this pin unconnected.", W4 DNC "Do not connect. This pin should not be connected to any signals on the PCB; leave this pin unconnected.", W6 DNC "Do not connect. This pin should not be connected to any signals on the PCB; leave this pin unconnected.", W8 DNC "Do not connect. This pin should not be connected to any signals on the PCB; leave this pin unconnected.", Y2 DNC "Do not connect. This pin should not be connected to any signals on the PCB; leave this pin unconnected.", Y4 DNC "Do not connect. This pin should not be connected to any signals on the PCB; leave this pin unconnected.", Y6 DNC "Do not connect. This pin should not be connected to any signals on the PCB; leave this pin unconnected.", Y8 DNC "Do not connect. This pin should not be connected to any signals on the PCB; leave this pin unconnected."
part A text: BANK 0
part B text: BANK 1
part C text: BANK 2
part D text: BANK 4
part E text: BANK 5
part F text: BANK 6
part G text: BANK 7

## DONE_MOUNT_HOLE
designator M?
Mechanical Hole for DB board variants
footprint DONE_M3_MOUNT_HOLE (Mount Hole, Unplated)
pins: 0

## DONE_PICOBLADE_3H
designator P?, comment 53261-0371  (value not drawn)
Picoblade, 3 pos, Right-angle; Partnumber: 53261-0371
footprint DONE_PICOBLADE_3H_HORIZONTAL (Molex, 53261-0371)
pins: 1, 2, 3, 4 MNT 1, 5 MNT 2

## DONE_PICOBLADE_6H
designator P?, comment 53261-0671  (value not drawn)
Picoblade, 6 pos, Right-angle; Partnumber: 53261-0671
footprint DONE_PICOBLADE_6H_HORIZONTAL (Molex, 53261-0671)
pins: 1, 2, 3, 4, 5, 6, 7 MNT 1, 8 MNT 2

## DONE_PICOBLADE_15H
designator P?, comment 53261-1571  (value not drawn)
Picoblade, 15 pos, Right-angle, 53261-1571; Partnumber: 53261-1571
footprint DONE_PICOBLADE_15H_HORIZONTAL (Molex_53261-1571)
pins: 1, 2, 3, 4, 5, 6, 7, 8, 9, 10, 11, 12, 13, 14, 15, 16 MNT 1, 17 MNT 2

## DONE_RES_0.1R_0603
designator R?, comment Resistance: 100mR  (hidden comment: 0.1)
RES 100 OHM 1% 1/8W 0603; Partnumber: RNCP0603FTD100R; Power Rating: 0.125W; Voltage Rating (DC): 250V; Supplier 1: Digi-Key
footprint DONE_R0603 (Chip Resistor, Body 1.6x0.8mm, IPC Medium Density)
pins: 1, 2

## DONE_RES_0.05R_0603
designator R?, comment 0.05R  Resistance: 50mR
RES 0.05 OHM 1% 1/3W 0603; Partnumber: ERJ-3BWFR050V; Power Rating: 0.33W; Voltage Rating (DC): 250V; Supplier 1: Digi-Key
footprint DONE_R0603 (Chip Resistor, Body 1.6x0.8mm, IPC Medium Density)
pins: 1, 2

## DONE_RES_0R_0603
designator R?, comment 0R  (value not drawn)
RES SMD 0 OHM JUMPER 1/10W 0603; Partnumber: RC0603JR-070RL; Case Code (Imperial): 0603; ComponentLink1URL: http://www.mouser.com/ds/2/427/mcat_pro-223602.pdf; ComponentLink1Description: http://www.mouser.com/ds/2/427/mcat_pro-223602.pdf; ComponentLink2URL: http://www.vishay.com/docs/28760/mcat_pro.pdf; ComponentLink2Description: http://www.vishay.com/docs/28760/mcat_pro.pdf
footprint DONE_R0603 (Chip Resistor, Body 1.6x0.8mm, IPC Medium Density)
pins: 1, 2

## DONE_RES_1K_0603
designator R?, comment 1K
RES SMD 1K OHM 1% 1/4W 0603; Partnumber: ESR03EZPF1001; Manufacturer: Rohm; Power Rating: 250mW; Temperature Coefficient: 100ppm/°C; ComponentLink1Description: digikey; ComponentLink1URL: https://www.digikey.com/product-detail/en/rohm-semiconductor/ESR03EZPF1001/RHM1.00KADCT-ND/1983752; Supplier 1: Digi-Key; Manufacturer Part Number: ESR03EZPF1001; Stock 1: 24170; Pricing 1: 1=0.14, 10=0.126, 100=0.0484, 1000=0.0213, 2500=0.0184 (USD); Case/Package: 0603; Case Code (Metric): 1608; Case Code (Imperial): 0603; Min Operating Temperature: -55°C; Max Operating Temperature: 155°C; Package Quantity: 1; Tolerance: 1%; Packaging: Tape and Reel; Composition: Thick Film; Number of Terminations: 2; Max Power Dissipation: 250mW; Length: 0.063inch; Height: 0.022inch; Width: 0.031inch; Lead Free: Lead Free; ComponentLink2URL: https://datasheet.ciiva.com/2469/esr-2469712.pdf; ComponentLink2Description: https://datasheet.ciiva.com/2469/esr-2469712.pdf; ComponentLink3URL: https://datasheet.ciiva.com/2469/esr-2469713.pdf; ComponentLink3Description: https://datasheet.ciiva.com/2469/esr-2469713.pdf; ComponentLink4URL: https://datasheet.ciiva.com/2469/esr-2469714.pdf; ComponentLink4Description: https://datasheet.ciiva.com/2469/esr-2469714.pdf; Supplier Part Number 1: RHM1.00KADCT-ND; Resistance: 1K
footprint DONE_R0603 (Chip Resistor, Body 1.6x0.8mm, IPC Medium Density)
pins: 1, 2

## DONE_RES_10K_0603
designator R?, comment 10k  (value not drawn)
1/8W 1%  0603 10K; Partnumber: MCT0603MC1002FP500; Manufacturer: Vishay Beyschlag; Resistance: 10kR; Power Rating: 125mW; Voltage Rating: 75V; NCM: 8533.21.20; Supplier 1: Digi-Key; Manufacturer Part Number: MCT0603MC1002FP500; Stock 1: 29986; Pricing 1: 1=0.37, 10=0.313, 100=0.1222, 1000=0.0511, 2500=0.0469 (USD); Case/Package: 0603; Weight: 7.1E-05oz; Case Code (Imperial): 0603; Case Code (Metric): 1608; Min Operating Temperature: -55°C; Max Operating Temperature: 155°C; Packaging: Tape and Reel; Tolerance: 1%; Package Quantity: 5000; Termination: SMD/SMT; Composition: Thin Film; Length: 1.6mm; Height: 0.45mm; Width: 0.8mm; ComponentLink1URL: http://www.mouser.com/ds/2/427/mcat_pro-223602.pdf; ComponentLink1Description: http://www.mouser.com/ds/2/427/mcat_pro-223602.pdf; ComponentLink2URL: http://www.vishay.com/docs/28760/mcat_pro.pdf; ComponentLink2Description: http://www.vishay.com/docs/28760/mcat_pro.pdf; Supplier Part Number 1: MCT0603-10.0K-MFCT-ND
footprint DONE_R0603 (Chip Resistor, Body 1.6x0.8mm, IPC Medium Density)
pins: 1, 2

## DONE_RES_10K_0805
designator R?, comment 10k
RES 10K OHM 1/8W 1%  0805; Partnumber: CRCW080510K0FKEA; Manufacturer: Vishay; Resistance: 10kR; Temperature Coefficient: 100ppm/°C; Power Rating: 125mW; Voltage Rating: 150V; NCM: 8533.21.20; ComponentLink1Description: https://www.digikey.com/product-detail/en/vishay-dale/CRCW080510K0FKEA/541-10-0KCCT-ND/1180897; ComponentLink1URL: https://www.digikey.com/product-detail/en/vishay-dale/CRCW080510K0FKEA/541-10-0KCCT-ND/1180897; ComponentLink2Description: https://br.mouser.com/ProductDetail/Vishay-Dale/CRCW080510K0FKEA?qs=sGAEpiMZZMu61qfTUdNhG2DpbjADlD3GOIdKSeOTyFU%3D; ComponentLink2URL: https://br.mouser.com/ProductDetail/Vishay-Dale/CRCW080510K0FKEA?qs=sGAEpiMZZMu61qfTUdNhG2DpbjADlD3GOIdKSeOTyFU%3D; Supplier 1: Digi-Key; Supplier Part Number 1: 541-10.0KCCT-ND; Stock 1: 1478098; Pricing 1: 1=0.1, 10=0.062, 100=0.0254, 1000=0.01142, 2500=0.00991 (USD); Case/Package: 0805; Weight: 0.000194oz; Contact Plating: Tin; Case Code (Imperial): 0805; Case Code (Metric): 2012; Min Operating Temperature: -55°C; Max Operating Temperature: 155°C; Tolerance: 1%; Composition: Thick Film; Packaging: Tape and Reel; Package Quantity: 5000; Military Standard: Not; Termination: SMD/SMT; Voltage Rating (DC): 150V; Length: 2mm; Height: 0.45mm; Width: 1.25mm; Depth: 1.25mm; Radiation Hardening: No; Lead Free: Lead Free; REACH SVHC: Unknown; ComponentLink3URL: http://www.mouser.com/ds/2/427/dcrcwe3-109170.pdf?src-supplier=Mouser; ComponentLink3Description: http://www.mouser.com/ds/2/427/dcrcwe3-109170.pdf?src-supplier=Mouser; ComponentLink4URL: http://uk.rs-online.com/webdocs/0d98/0900766b80d98b26.pdf?src-supplier=RSComponents; ComponentLink4Description: http://uk.rs-online.com/webdocs/0d98/0900766b80d98b26.pdf?src-supplier=RSComponents; ComponentLink5URL: http://www.alliedelec.com/m/d/0c934d6939ccefa68dbe0b96d821c8cf.pdf?src-supplier=Allied+Electronics; ComponentLink5Description: http://www.alliedelec.com/m/d/0c934d6939ccefa68dbe0b96d821c8cf.pdf?src-supplier=Allied+Electronics; ComponentLink6URL: http://www.vishay.com/docs/20035/dcrcwe3.pdf?src-supplier=Avnet+Asia; ComponentLink6Description: http://www.vishay.com/docs/20035/dcrcwe3.pdf?src-supplier=Avnet+Asia; ComponentLink7URL: http://www.vishay.com/docs/20035/dcrcwe3.pdf?src-supplier=Avnet+Europe; ComponentLink7Description: http://www.vishay.com/docs/20035/dcrcwe3.pdf?src-supplier=Avnet+Europe; ComponentLink8URL: http://www.farnell.com/datasheets/2310790.pdf?src-supplier=Element14; ComponentLink8Description: http://www.farnell.com/datasheets/2310790.pdf?src-supplier=Element14; ComponentLink9URL: http://www.vishay.com/docs/20035/dcrcwe3.pdf?src-supplier=Avnet; ComponentLink9Description: http://www.vishay.com/docs/20035/dcrcwe3.pdf?src-supplier=Avnet; ComponentLink10URL: http://www.vishay.com/docs/20035/dcrcwe3.pdf?src-supplier=Future+Electronics; ComponentLink10Description: http://www.vishay.com/docs/20035/dcrcwe3.pdf?src-supplier=Future+Electronics; Supplier 2: Mouser; Supplier Part Number 2: 71-CRCW0805-10K-E3; Stock 2: 157494; Pricing 2: 1=0.1, 10=0.062, 100=0.025, 1000=0.01, 5000=0.007, 10000=0.006 (USD); Manufacturer Part Number: CRCW080510K0FKEA
footprint DONE_R0805 (Chip Resistor, Body 2.0x1.3mm, IPC Medium Density)
pins: 1, 2